# EAGLE library part A2F500M3G-CS288 (library BreakoutBoard)
A2F500M3G CS288 SmartFusion A2F500M3G device in CS288 package Sources: A2F500M3-CS288 BSDL <http://www.actel.com/documents/bsdl/A2F200M3F_CS288.bsd> Package Mechanical Drawings <http://www.actel.com/documents/PckgMechDrwngs.pdf> SmartFusion Intelligent Mixed Signal FPGAs Datasheet <http://www.actel.com/documents/SmartFusion_DS.pdf>
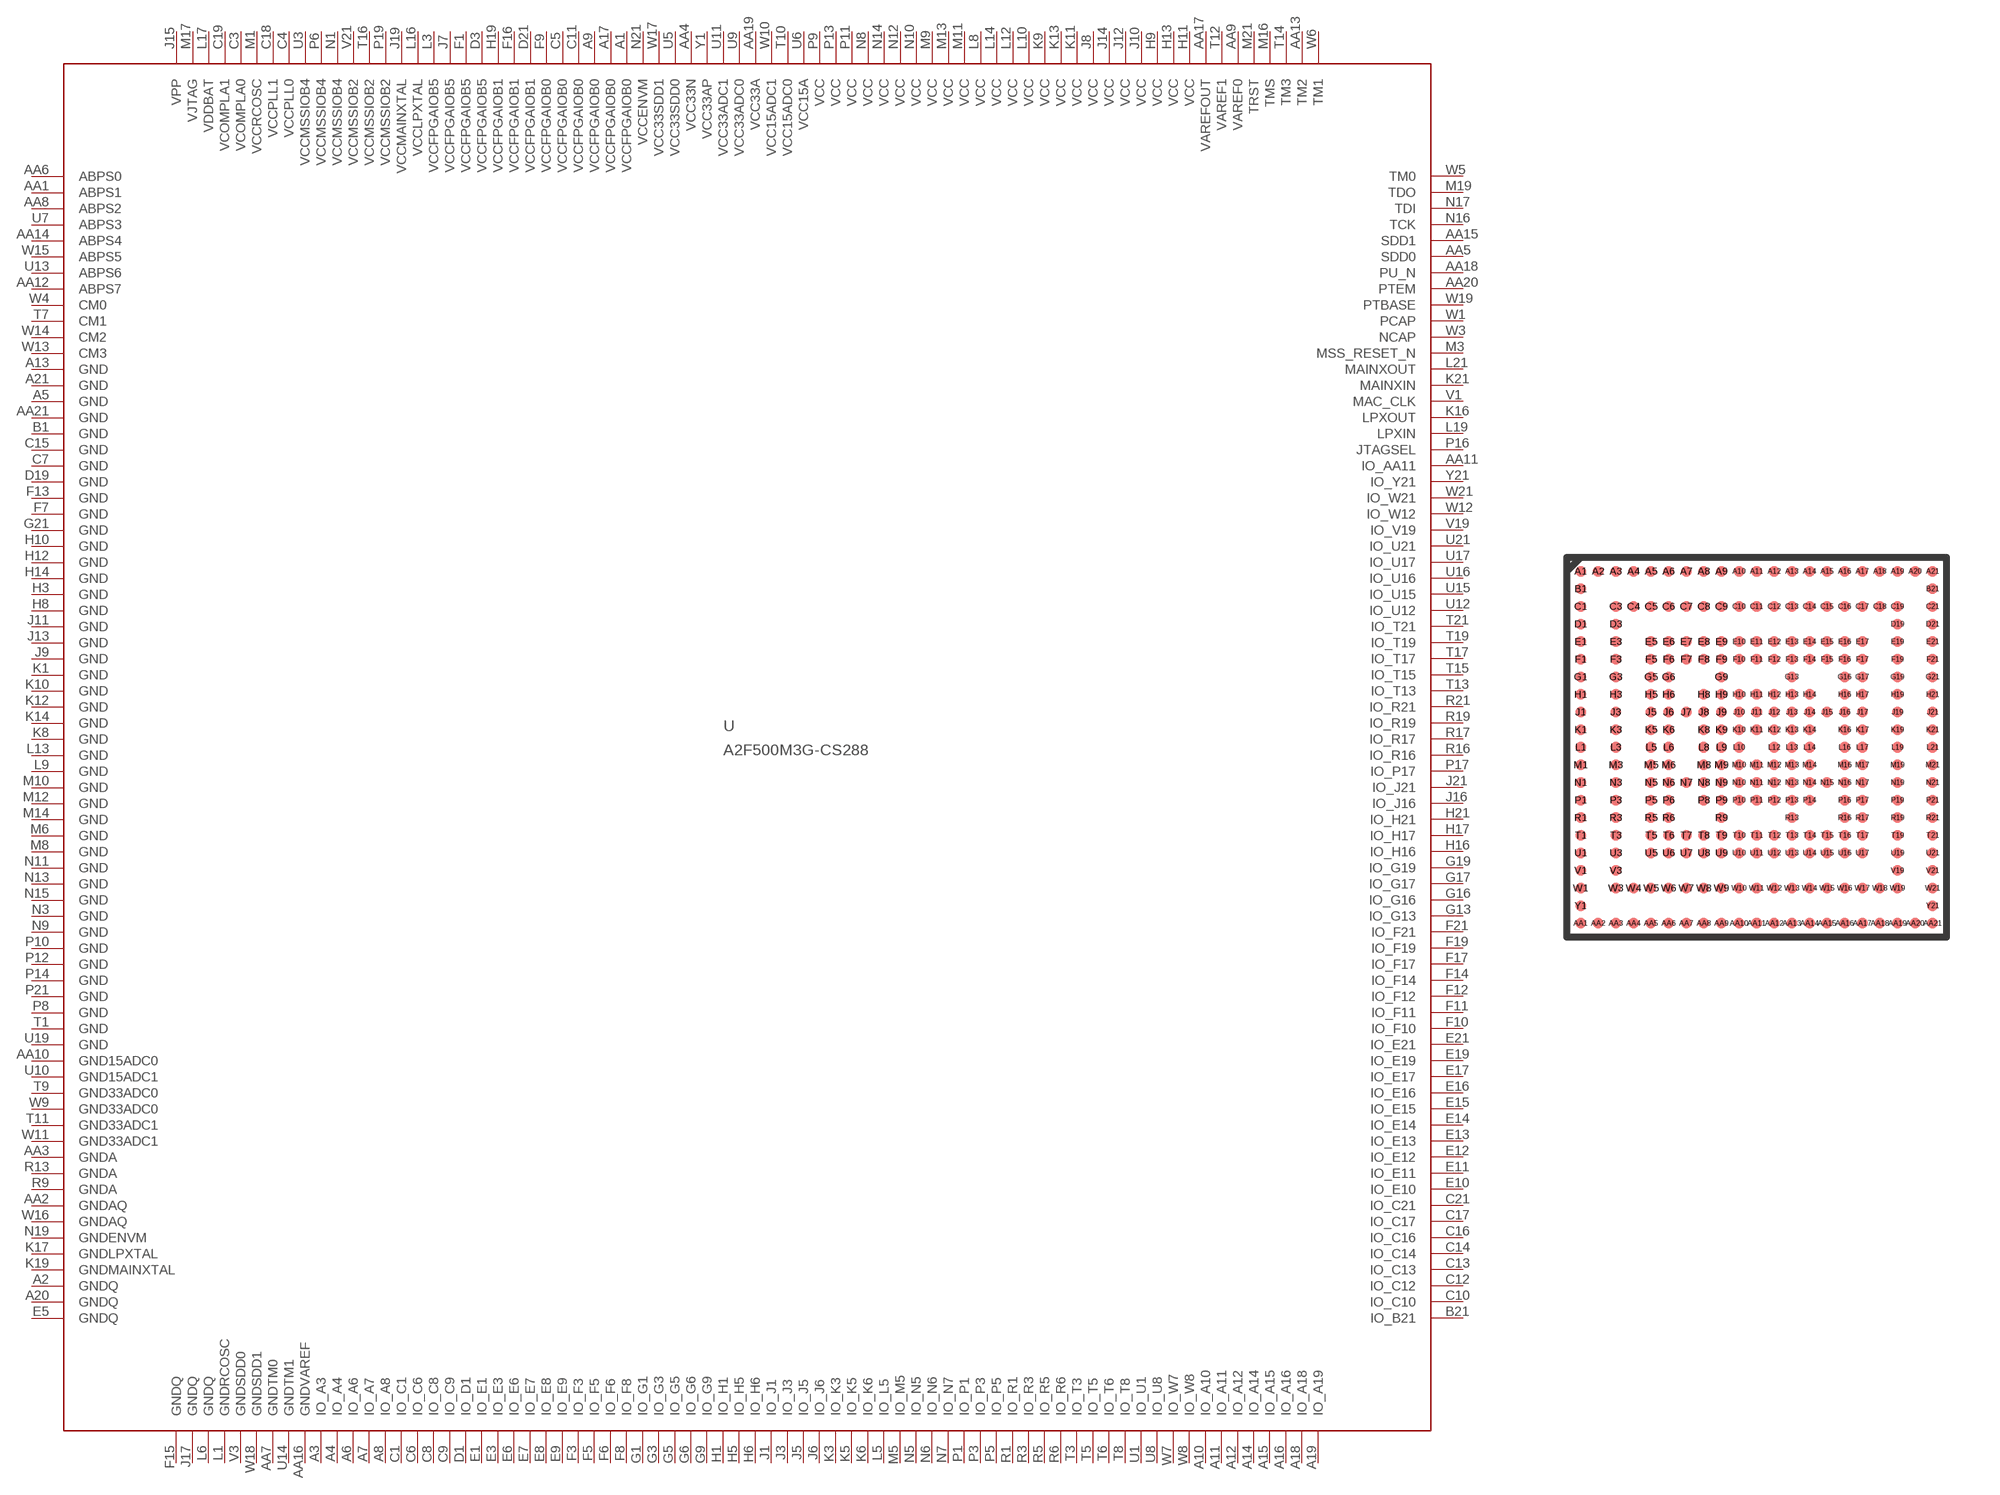
[diagram p13: symbol with the pads of CS288; footprint CS288]

Designator prefix U

## A2F500M3G-CS288  [CS288]
A1  VCCFPGAIOB0  pwr
A2  GNDQ  pwr
A3  IO_A3
A4  IO_A4
A5  GND  pwr
A6  IO_A6
A7  IO_A7
A8  IO_A8
A9  VCCFPGAIOB0  pwr
A10  IO_A10
A11  IO_A11
A12  IO_A12
A13  GND  pwr
A14  IO_A14
A15  IO_A15
A16  IO_A16
A17  VCCFPGAIOB0  pwr
A18  IO_A18
A19  IO_A19
A20  GNDQ  pwr
A21  GND  pwr
AA1  ABPS1  pas
AA2  GNDAQ  pwr
AA3  GNDA  pwr
AA4  VCC33N  pwr
AA5  SDD0  pas
AA6  ABPS0  pas
AA7  GNDTM0  pwr
AA8  ABPS2  pas
AA9  VAREF0  pas
AA10  GND15ADC0  pwr
AA11  IO_AA11  in
AA12  ABPS7  pas
AA13  TM2  pas
AA14  ABPS4  pas
AA15  SDD1  pas
AA16  GNDVAREF  pwr
AA17  VAREFOUT  pas
AA18  PU_N  pas
AA19  VCC33A  pwr
AA20  PTEM  pas
AA21  GND  pwr
B1  GND  pwr
B21  IO_B21
C1  IO_C1
C3  VCOMPLA0  pas
C4  VCCPLL0  pwr
C5  VCCFPGAIOB0  pwr
C6  IO_C6
C7  GND  pwr
C8  IO_C8
C9  IO_C9
C10  IO_C10
C11  VCCFPGAIOB0  pwr
C12  IO_C12
C13  IO_C13
C14  IO_C14
C15  GND  pwr
C16  IO_C16
C17  IO_C17
C18  VCCPLL1  pwr
C19  VCOMPLA1  pas
C21  IO_C21
D1  IO_D1
D3  VCCFPGAIOB5  pwr
D19  GND  pwr
D21  VCCFPGAIOB1  pwr
E1  IO_E1
E3  IO_E3
E5  GNDQ  pwr
E6  IO_E6
E7  IO_E7
E8  IO_E8
E9  IO_E9
E10  IO_E10
E11  IO_E11
E12  IO_E12
E13  IO_E13
E14  IO_E14
E15  IO_E15
E16  IO_E16
E17  IO_E17
E19  IO_E19
E21  IO_E21
F1  VCCFPGAIOB5  pwr
F3  IO_F3
F5  IO_F5
F6  IO_F6
F7  GND  pwr
F8  IO_F8
F9  VCCFPGAIOB0  pwr
F10  IO_F10
F11  IO_F11
F12  IO_F12
F13  GND  pwr
F14  IO_F14
F15  GNDQ  pwr
F16  VCCFPGAIOB1  pwr
F17  IO_F17
F19  IO_F19
F21  IO_F21
G1  IO_G1
G3  IO_G3
G5  IO_G5
G6  IO_G6
G9  IO_G9
G13  IO_G13
G16  IO_G16
G17  IO_G17
G19  IO_G19
G21  GND  pwr
H1  IO_H1
H3  GND  pwr
H5  IO_H5
H6  IO_H6
H8  GND  pwr
H9  VCC  pwr
H10  GND  pwr
H11  VCC  pwr
H12  GND  pwr
H13  VCC  pwr
H14  GND  pwr
H16  IO_H16
H17  IO_H17
H19  VCCFPGAIOB1  pwr
H21  IO_H21
J1  IO_J1
J3  IO_J3
J5  IO_J5
J6  IO_J6
J7  VCCFPGAIOB5  pwr
J8  VCC  pwr
J9  GND  pwr
J10  VCC  pwr
J11  GND  pwr
J12  VCC  pwr
J13  GND  pwr
J14  VCC  pwr
J15  VPP  pas
J16  IO_J16
J17  GNDQ  pwr
J19  VCCMAINXTAL  pwr
J21  IO_J21
K1  GND  pwr
K3  IO_K3
K5  IO_K5
K6  IO_K6
K8  GND  pwr
K9  VCC  pwr
K10  GND  pwr
K11  VCC  pwr
K12  GND  pwr
K13  VCC  pwr
K14  GND  pwr
K16  LPXOUT  pas
K17  GNDLPXTAL  pwr
K19  GNDMAINXTAL  pwr
K21  MAINXIN  pas
L1  GNDRCOSC  pwr
L3  VCCFPGAIOB5  pwr
L5  IO_L5
L6  GNDQ  pwr
L8  VCC  pwr
L9  GND  pwr
L10  VCC  pwr
L12  VCC  pwr
L13  GND  pwr
L14  VCC  pwr
L16  VCCLPXTAL  pwr
L17  VDDBAT  pwr
L19  LPXIN  pas
L21  MAINXOUT  pas
M1  VCCRCOSC  pwr
M3  MSS_RESET_N  pas
M5  IO_M5
M6  GND  pwr
M8  GND  pwr
M9  VCC  pwr
M10  GND  pwr
M11  VCC  pwr
M12  GND  pwr
M13  VCC  pwr
M14  GND  pwr
M16  TMS  in
M17  VJTAG  pas
M19  TDO  out
M21  TRST  in
N1  VCCMSSIOB4  pwr
N3  GND  pwr
N5  IO_N5
N6  IO_N6
N7  IO_N7
N8  VCC  pwr
N9  GND  pwr
N10  VCC  pwr
N11  GND  pwr
N12  VCC  pwr
N13  GND  pwr
N14  VCC  pwr
N15  GND  pwr
N16  TCK  in
N17  TDI  in
N19  GNDENVM  pwr
N21  VCCENVM  pwr
P1  IO_P1
P3  IO_P3
P5  IO_P5
P6  VCCMSSIOB4  pwr
P8  GND  pwr
P9  VCC  pwr
P10  GND  pwr
P11  VCC  pwr
P12  GND  pwr
P13  VCC  pwr
P14  GND  pwr
P16  JTAGSEL  pas
P17  IO_P17
P19  VCCMSSIOB2  pwr
P21  GND  pwr
R1  IO_R1
R3  IO_R3
R5  IO_R5
R6  IO_R6
R9  GNDA  pwr
R13  GNDA  pwr
R16  IO_R16
R17  IO_R17
R19  IO_R19
R21  IO_R21
T1  GND  pwr
T3  IO_T3
T5  IO_T5
T6  IO_T6
T7  CM1  pas
T8  IO_T8  in
T9  GND33ADC0  pwr
T10  VCC15ADC0  pwr
T11  GND33ADC1  pwr
T12  VAREF1  pas
T13  IO_T13  in
T14  TM3  pas
T15  IO_T15
T16  VCCMSSIOB2  pwr
T17  IO_T17
T19  IO_T19
T21  IO_T21
U1  IO_U1
U3  VCCMSSIOB4  pwr
U5  VCC33SDD0  pwr
U6  VCC15A  pwr
U7  ABPS3  pas
U8  IO_U8  in
U9  VCC33ADC0  pwr
U10  GND15ADC1  pwr
U11  VCC33ADC1  pwr
U12  IO_U12  in
U13  ABPS6  pas
U14  GNDTM1  pwr
U15  IO_U15
U16  IO_U16
U17  IO_U17
U19  GND  pwr
U21  IO_U21
V1  MAC_CLK  pas
V3  GNDSDD0  pwr
V19  IO_V19
V21  VCCMSSIOB2  pwr
W1  PCAP  pas
W3  NCAP  pas
W4  CM0  pas
W5  TM0  pas
W6  TM1  pas
W7  IO_W7  in
W8  IO_W8  in
W9  GND33ADC0  pwr
W10  VCC15ADC1  pwr
W11  GND33ADC1  pwr
W12  IO_W12  in
W13  CM3  pas
W14  CM2  pas
W15  ABPS5  pas
W16  GNDAQ  pwr
W17  VCC33SDD1  pwr
W18  GNDSDD1  pwr
W19  PTBASE  pas
W21  IO_W21
Y1  VCC33AP  pwr
Y21  IO_Y21

## Footprint CS288 (pad centres in mm)
A2F500M3G_CS288 edit this description Auto generated by make-symbol-device-package-bsdl.ulp Rev. 34 Source: A2F500M3G_CS288.bsd
smd 0.31 x 0.31: A1 -5,5; A2 -4.5,5; A3 -4,5; A4 -3.5,5; A5 -3,5; A6 -2.5,5; A7 -2,5; A8 -1.5,5; A9 -1,5; A10 -0.5,5; A11 0,5; A12 0.5,5; A13 1,5; A14 1.5,5; A15 2,5; A16 2.5,5; A17 3,5; A18 3.5,5; A19 4,5; A20 4.5,5; A21 5,5; AA1 -5,-5; AA2 -4.5,-5; AA3 -4,-5; AA4 -3.5,-5; AA5 -3,-5; AA6 -2.5,-5; AA7 -2,-5; AA8 -1.5,-5; AA9 -1,-5; AA10 -0.5,-5; AA11 0,-5; AA12 0.5,-5; AA13 1,-5; AA14 1.5,-5; AA15 2,-5; AA16 2.5,-5; AA17 3,-5; AA18 3.5,-5; AA19 4,-5; AA20 4.5,-5; AA21 5,-5; B1 -5,4.5; B21 5,4.5; C1 -5,4; C3 -4,4; C4 -3.5,4; C5 -3,4; C6 -2.5,4; C7 -2,4; C8 -1.5,4; C9 -1,4; C10 -0.5,4; C11 0,4; C12 0.5,4; C13 1,4; C14 1.5,4; C15 2,4; C16 2.5,4; C17 3,4; C18 3.5,4; C19 4,4; C21 5,4; D1 -5,3.5; D3 -4,3.5; D19 4,3.5; D21 5,3.5; E1 -5,3; E3 -4,3; E5 -3,3; E6 -2.5,3; E7 -2,3; E8 -1.5,3; E9 -1,3; E10 -0.5,3; E11 0,3; E12 0.5,3; E13 1,3; E14 1.5,3; E15 2,3; E16 2.5,3; E17 3,3; E19 4,3; E21 5,3; F1 -5,2.5; F3 -4,2.5; F5 -3,2.5; F6 -2.5,2.5; F7 -2,2.5; F8 -1.5,2.5; F9 -1,2.5; F10 -0.5,2.5; F11 0,2.5; F12 0.5,2.5; F13 1,2.5; F14 1.5,2.5; F15 2,2.5; F16 2.5,2.5; F17 3,2.5; F19 4,2.5; F21 5,2.5; G1 -5,2; G3 -4,2; G5 -3,2; G6 -2.5,2; G9 -1,2; G13 1,2; G16 2.5,2; G17 3,2; G19 4,2; G21 5,2; H1 -5,1.5; H3 -4,1.5; H5 -3,1.5; H6 -2.5,1.5; H8 -1.5,1.5; H9 -1,1.5; H10 -0.5,1.5; H11 0,1.5; H12 0.5,1.5; H13 1,1.5; H14 1.5,1.5; H16 2.5,1.5; H17 3,1.5; H19 4,1.5; H21 5,1.5; J1 -5,1; J3 -4,1; J5 -3,1; J6 -2.5,1; J7 -2,1; J8 -1.5,1; J9 -1,1; J10 -0.5,1; J11 0,1; J12 0.5,1; J13 1,1; J14 1.5,1; J15 2,1; J16 2.5,1; J17 3,1; J19 4,1; J21 5,1; K1 -5,0.5; K3 -4,0.5; K5 -3,0.5; K6 -2.5,0.5; K8 -1.5,0.5; K9 -1,0.5; K10 -0.5,0.5; K11 0,0.5; K12 0.5,0.5; K13 1,0.5; K14 1.5,0.5; K16 2.5,0.5; K17 3,0.5; K19 4,0.5; K21 5,0.5; L1 -5,0; L3 -4,0; L5 -3,0; L6 -2.5,0; L8 -1.5,0; L9 -1,0; L10 -0.5,0; L12 0.5,0; L13 1,0; L14 1.5,0; L16 2.5,0; L17 3,0; L19 4,0; L21 5,0; M1 -5,-0.5; M3 -4,-0.5; M5 -3,-0.5; M6 -2.5,-0.5; M8 -1.5,-0.5; M9 -1,-0.5; M10 -0.5,-0.5; M11 0,-0.5; M12 0.5,-0.5; M13 1,-0.5; M14 1.5,-0.5; M16 2.5,-0.5; M17 3,-0.5; M19 4,-0.5; M21 5,-0.5; N1 -5,-1; N3 -4,-1; N5 -3,-1; N6 -2.5,-1; N7 -2,-1; N8 -1.5,-1; N9 -1,-1; N10 -0.5,-1; N11 0,-1; N12 0.5,-1; N13 1,-1; N14 1.5,-1; N15 2,-1; N16 2.5,-1; N17 3,-1; N19 4,-1; N21 5,-1; P1 -5,-1.5; P3 -4,-1.5; P5 -3,-1.5; P6 -2.5,-1.5; P8 -1.5,-1.5; P9 -1,-1.5; P10 -0.5,-1.5; P11 0,-1.5; P12 0.5,-1.5; P13 1,-1.5; P14 1.5,-1.5; P16 2.5,-1.5; P17 3,-1.5; P19 4,-1.5; P21 5,-1.5; R1 -5,-2; R3 -4,-2; R5 -3,-2; R6 -2.5,-2; R9 -1,-2; R13 1,-2; R16 2.5,-2; R17 3,-2; R19 4,-2; R21 5,-2; T1 -5,-2.5; T3 -4,-2.5; T5 -3,-2.5; T6 -2.5,-2.5; T7 -2,-2.5; T8 -1.5,-2.5; T9 -1,-2.5; T10 -0.5,-2.5; T11 0,-2.5; T12 0.5,-2.5; T13 1,-2.5; T14 1.5,-2.5; T15 2,-2.5; T16 2.5,-2.5; T17 3,-2.5; T19 4,-2.5; T21 5,-2.5; U1 -5,-3; U3 -4,-3; U5 -3,-3; U6 -2.5,-3; U7 -2,-3; U8 -1.5,-3; U9 -1,-3; U10 -0.5,-3; U11 0,-3; U12 0.5,-3; U13 1,-3; U14 1.5,-3; U15 2,-3; U16 2.5,-3; U17 3,-3; U19 4,-3; U21 5,-3; V1 -5,-3.5; V3 -4,-3.5; V19 4,-3.5; V21 5,-3.5; W1 -5,-4; W3 -4,-4; W4 -3.5,-4; W5 -3,-4; W6 -2.5,-4; W7 -2,-4; W8 -1.5,-4; W9 -1,-4; W10 -0.5,-4; W11 0,-4; W12 0.5,-4; W13 1,-4; W14 1.5,-4; W15 2,-4; W16 2.5,-4; W17 3,-4; W18 3.5,-4; W19 4,-4; W21 5,-4; Y1 -5,-4.5; Y21 5,-4.5